# Altium integrated library BB Amplifier Buffer.IntLib: 9 symbols
Pins are listed as number, name and electrical type; pins without a type are passive.

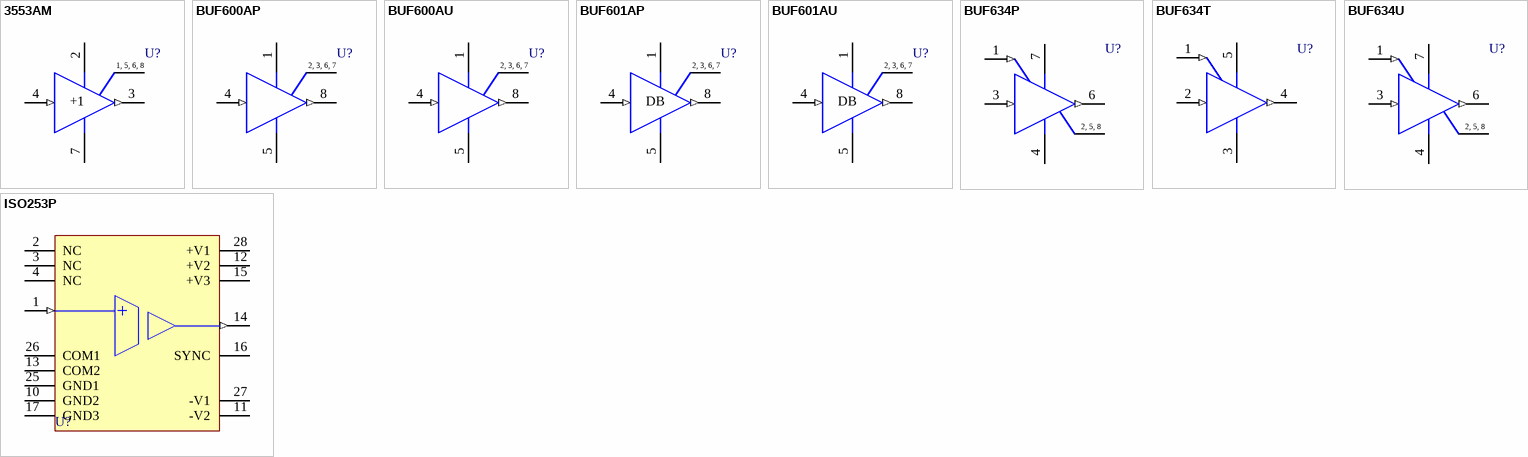
[diagram p0: symbols 3553AM to ISO253P]

## 3553AM
designator U?
Wideband - Fast-Slewing Buffer Amplifier; Note: Pins 1,5,6 and 8 are No internal Connection (NC) pins.; Published: 8-Jun-2000; LatestRevisionDate: 17-Jul-2002; LatestRevisionNote: Re-released for DXP Platform.; PackageVersion: revC; PackageReference: ZZ030; Publisher: Altium Limited; PackageDescription: Oval Flange Mount; 8 Leads; Pin Circle Dia. 12.7 mm; Lead Dia. 1.07 mm (max); ComponentLink1Description: Manufacturer Link; ComponentLink1URL: http://www.ti.com/
footprint ZZ030 (Oval Flange Mount; 8 Leads; Pin Circle Dia. 12.7 mm; Lead Dia. 1.07 mm (max))
pins: 1 NC, 2 V+ (power), 3 OUT (out), 4 IN (in), 5 NC, 6 NC, 7 V- (power), 8 NC
text: 1, 5, 6, 8; +1

## BUF600AP
designator U?
High-Speed Buffer Amplifier; Note: Pins 2, 3, 6 and 7 are No internal Connection (NC) pins.; Published: 8-Jun-2000; LatestRevisionDate: 06-Jun-2005; LatestRevisionNote: Stylized 3D Model Added.; DatasheetVersion: Mar-1998; PackageVersion: revE; PackageReference: 006E; Publisher: Altium Limited; PackageDescription: DIP; 8 Leads; Row Spacing 7.62 mm; Pitch 2.54 mm; ComponentLink1Description: Manufacturer Link; ComponentLink1URL: http://www.ti.com/; ComponentLink2Description: Datasheet; ComponentLink2URL: http://www-s.ti.com/sc/ds/BUF600.pdf
footprint 006E (DIP; 8 Leads; Row Spacing 7.62 mm; Pitch 2.54 mm)
3D model DIP8 (DIP; 8 Leads; Row Spacing 7.62 mm; Pitch 2.54 mm)
simulation model BUF600X1 (SUBCKT)
pins: 1 V+ (power), 2 NC, 3 NC, 4 IN (in), 5 V- (power), 6 NC, 7 NC, 8 OUT (out)
text: 2, 3, 6, 7

## BUF600AU
designator U?
High-Speed Buffer Amplifier; Note: Pins 2, 3, 6 and 7 are No internal Connection (NC) pins.; Published: 8-Jun-2000; LatestRevisionDate: 13-Apr-2006; LatestRevisionNote: IPC-7351 Footprint Added.; DatasheetVersion: Mar-1998; PackageReference: 182H; Publisher: Altium Limited; PackageDescription: 8-Pin Small Outline Integrated Circuit 1.27 mm Pitch; Code_JEDEC: MS-012-AA; Code_IPC: SOIC127P600-8; ComponentLink1Description: Manufacturer Link; ComponentLink1URL: http://www.ti.com/; ComponentLink2Description: Datasheet; ComponentLink2URL: http://www-s.ti.com/sc/ds/BUF600.pdf
footprint 182H_N (SOIC, 8-Leads, Body 4.9x3.9mm, Pitch 1.27mm, IPC Medium Density)
footprint 182H_L (SOIC, 8-Leads, Body 4.9x3.9mm, Pitch 1.27mm, IPC High Density)
footprint 182H_M (SOIC, 8-Leads, Body 4.9x3.9mm, Pitch 1.27mm, IPC Low Density)
3D model SOIC8 (8-Pin Small Outline Integrated Circuit 1.27 mm Pitch)
simulation model BUF600X1 (SUBCKT)
pins: 1 V+ (power), 2 NC, 3 NC, 4 IN (in), 5 V- (power), 6 NC, 7 NC, 8 OUT (out)
text: 2, 3, 6, 7

## BUF601AP
designator U?
High-Speed Buffer Amplifier; Note: Pins 2, 3, 6 and 7 are No internal Connection (NC) pins.; Published: 8-Jun-2000; LatestRevisionDate: 06-Jun-2005; LatestRevisionNote: Stylized 3D Model Added.; DatasheetVersion: 1996~1997; PackageVersion: revE; PackageReference: 006E; Publisher: Altium Limited; PackageDescription: DIP; 8 Leads; Row Spacing 7.62 mm; Pitch 2.54 mm; ComponentLink1Description: Manufacturer Link; ComponentLink1URL: http://www.ti.com/
footprint 006E (DIP; 8 Leads; Row Spacing 7.62 mm; Pitch 2.54 mm)
3D model DIP8 (DIP; 8 Leads; Row Spacing 7.62 mm; Pitch 2.54 mm)
simulation model BUF601X1 (SUBCKT)
pins: 1 V+ (power), 2 NC, 3 NC, 4 IN (in), 5 V- (power), 6 NC, 7 NC, 8 OUT (out)
text: 2, 3, 6, 7; DB

## BUF601AU
designator U?
High-Speed Buffer Amplifier; Note: Pins 2, 3, 6 and 7 are No internal Connection (NC) pins.; Published: 8-Jun-2000; LatestRevisionDate: 13-Apr-2006; LatestRevisionNote: IPC-7351 Footprint Added.; DatasheetVersion: Mar-1998; PackageReference: 182H; Publisher: Altium Limited; PackageDescription: 8-Pin Small Outline Integrated Circuit 1.27 mm Pitch; Code_JEDEC: MS-012-AA; Code_IPC: SOIC127P600-8; ComponentLink1Description: Manufacturer Link; ComponentLink1URL: http://www.ti.com/; ComponentLink2Description: Datasheet; ComponentLink2URL: http://www-s.ti.com/sc/ds/BUF600.pdf
footprint 182H_N (SOIC, 8-Leads, Body 4.9x3.9mm, Pitch 1.27mm, IPC Medium Density)
footprint 182H_L (SOIC, 8-Leads, Body 4.9x3.9mm, Pitch 1.27mm, IPC High Density)
footprint 182H_M (SOIC, 8-Leads, Body 4.9x3.9mm, Pitch 1.27mm, IPC Low Density)
3D model SOIC8 (8-Pin Small Outline Integrated Circuit 1.27 mm Pitch)
simulation model BUF601X1 (SUBCKT)
pins: 1 V+ (power), 2 NC, 3 NC, 4 IN (in), 5 V- (power), 6 NC, 7 NC, 8 OUT (out)
text: 2, 3, 6, 7; DB

## BUF634P
designator U?
250mA High-Speed Buffer; Note: Pins 2, 5 and 8 are No internal Connection (NC) pins.; Published: 8-Jun-2000; LatestRevisionDate: 06-Jun-2005; LatestRevisionNote: Stylized 3D Model Added.; DatasheetVersion: Jun-1996; PackageVersion: revE; PackageReference: 006E; Publisher: Altium Limited; PackageDescription: DIP; 8 Leads; Row Spacing 7.62 mm; Pitch 2.54 mm; ComponentLink1Description: Manufacturer Link; ComponentLink1URL: http://www.ti.com/; ComponentLink2Description: Datasheet; ComponentLink2URL: http://www-s.ti.com/sc/ds/BUF634.pdf
footprint 006E (DIP; 8 Leads; Row Spacing 7.62 mm; Pitch 2.54 mm)
3D model DIP8 (DIP; 8 Leads; Row Spacing 7.62 mm; Pitch 2.54 mm)
simulation model BUF634X (SUBCKT)
pins: 1 BW (in), 2 NC, 3 IN (in), 4 V- (power), 5 NC, 6 OUT (out), 7 V+ (power), 8 NC
text: 2, 5, 8

## BUF634T
designator U?
250mA High-Speed Buffer; Published: 8-Jun-2000; LatestRevisionDate: 17-Jul-2002; LatestRevisionNote: Re-released for DXP Platform.; DatasheetVersion: Jun-1996; PackageVersion: revB; PackageReference: 315B; Publisher: Altium Limited; PackageDescription: TO, Thru-Hole, Vertical, Heatsink Mounted; 5 In-Line Leads; Pitch 1.70 mm; Code_JEDEC: TS-001-AA; ComponentLink1Description: Manufacturer Link; ComponentLink1URL: http://www.ti.com/; ComponentLink2Description: Datasheet; ComponentLink2URL: http://www-s.ti.com/sc/ds/BUF634.pdf
footprint 315B (TO, Thru-Hole, Vertical, Heatsink Mounted; 5 In-Line Leads; Pitch 1.70 mm)
simulation model BUF634X (SUBCKT)
pins: 1 BW (in), 2 IN (in), 3 V- (power), 4 OUT (out), 5 V+ (power)

## BUF634U
designator U?
250mA High-Speed Buffer; Note: Pins 2, 5 and 8 are No internal Connection (NC) pins.; Published: 8-Jun-2000; LatestRevisionDate: 13-Apr-2006; LatestRevisionNote: IPC-7351 Footprint Added.; DatasheetVersion: Jun-1996; PackageReference: 182H; Publisher: Altium Limited; PackageDescription: 8-Pin Small Outline Integrated Circuit 1.27 mm Pitch; Code_JEDEC: MS-012-AA; Code_IPC: SOIC127P600-8; ComponentLink1Description: Manufacturer Link; ComponentLink1URL: http://www.ti.com/; ComponentLink2Description: Datasheet; ComponentLink2URL: http://www-s.ti.com/sc/ds/BUF634.pdf
footprint 182H_N (SOIC, 8-Leads, Body 4.9x3.9mm, Pitch 1.27mm, IPC Medium Density)
footprint 182H_L (SOIC, 8-Leads, Body 4.9x3.9mm, Pitch 1.27mm, IPC High Density)
footprint 182H_M (SOIC, 8-Leads, Body 4.9x3.9mm, Pitch 1.27mm, IPC Low Density)
3D model SOIC8 (8-Pin Small Outline Integrated Circuit 1.27 mm Pitch)
simulation model BUF634X (SUBCKT)
pins: 1 BW (in), 2 NC, 3 IN (in), 4 V- (power), 5 NC, 6 OUT (out), 7 V+ (power), 8 NC
text: 2, 5, 8

## ISO253P
designator U?
Precision, Powered, Three-Port Isolated Buffer Amplifier; Note: No pins present at positions 5 to 9 and 18 to 24. Pins 2 to 4 are No internal Connection (NC) pins.; Published: 8-Jun-2000; LatestRevisionDate: 17-Jul-2002; LatestRevisionNote: Re-released for DXP Platform.; DatasheetVersion: 1996~1997; PackageVersion: revA; PackageReference: ZZ335; Publisher: Altium Limited; PackageDescription: DIP; 28 Round Pins (12 Absent); Row Space 15.24 mm; Pitch 2.54 mm; ComponentLink1Description: Manufacturer Link; ComponentLink1URL: http://www.ti.com/
footprint ZZ335 (DIP; 28 Round Pins (12 Absent); Row Space 15.24 mm; Pitch 2.54 mm)
pins: 1 IN (in), 2 NC, 3 NC, 4 NC, 10 GND2 (power), 11 -V2 (power), 12 +V2 (power), 13 COM2 (power), 14 OUT (out), 15 +V3 (power), 16 SYNC, 17 GND3 (power), 25 GND1 (power), 26 COM1 (power), 27 -V1 (power), 28 +V1 (power)